# Altium schematic symbol library UPA2735GR-E1-AT.SchLib: 2 symbols
Pins are listed as number, name and electrical type; pins without a type are passive.

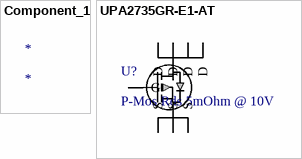
[diagram p0: symbols Component_1 to UPA2735GR-E1-AT]

## Component_1
designator *

## UPA2735GR-E1-AT
designator U?, comment P-Mos Rds 5mOhm @ 10V
P-Channel 30 V 16A (Ta) 2.5W (Ta) Surface Mount 8-SOP; Mfr_Name: Renesas Electronics; Manufacturer_Part_Number: UPA2735GR-E1-AT; Copyright: Copyright (C) 2022 Ultra Librarian. All rights reserved.; RefDes: RefDes; Type: DEV
footprint D0008A-IPC_A
pins: 1 S, 2 S, 3 S, 4 G, 5 D, 6 D, 7 D, 8 D